# Altium footprint library SeniorDesign.PcbLib: 16 footprints
Each footprint in its own frame and in the unit in brackets; x right, y up, seen from the top. Pads: shape width x height; smd on the part's side, far side on the other; paste and mask are expansions set on the pad; w line width, h text height; cw(c..) or ccw(c..) is an arc to the next point about the centre after c.
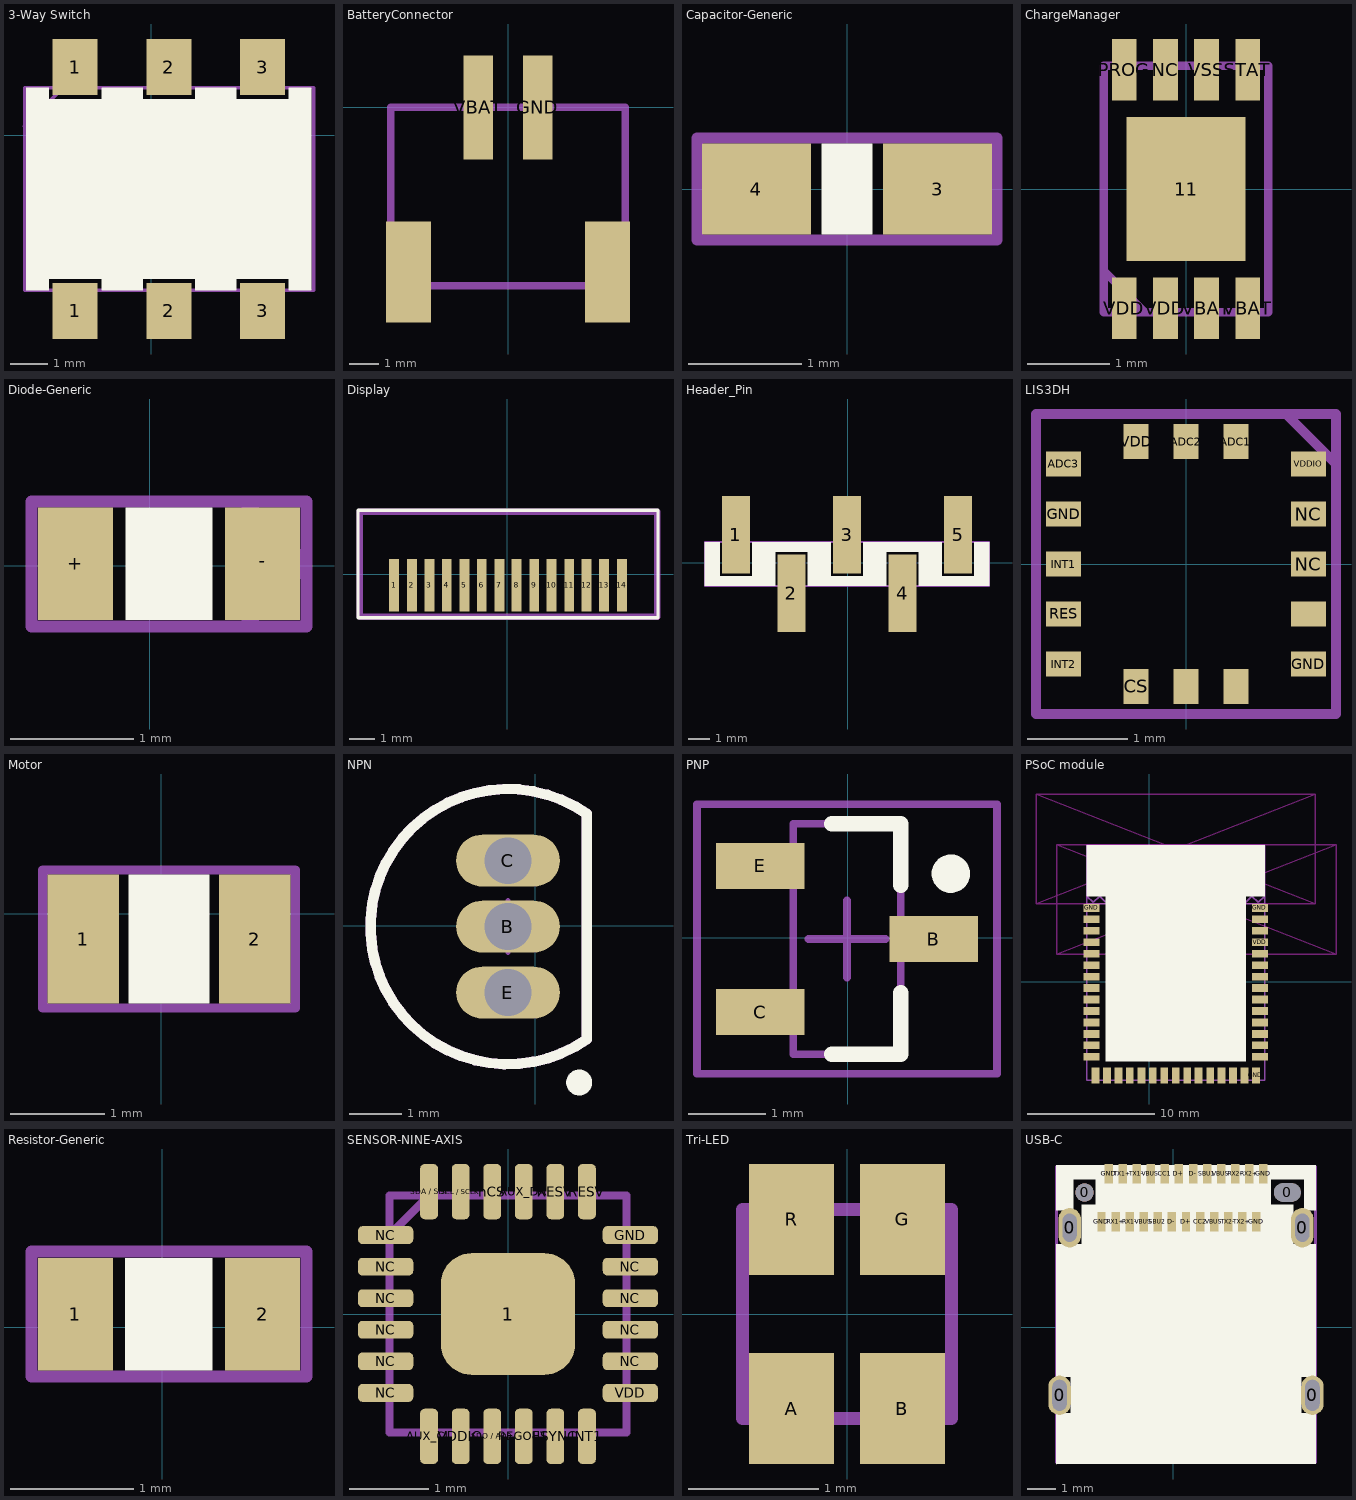
[diagram p0: the footprints below, top view; thin cyan lines are the x and y axes]

## 3-Way Switch [mm]
pads (6):
  rect 1.2x1.5 smd: 1(-2.022,-4.679) 1(-2.022,1.821) 2(0.478,-4.679) 2(0.478,1.821) 3(2.978,-4.679) 3(2.978,1.821)
Top Overlay:
  region: -3.322,1.271 -2.722,1.271 -2.722,0.971 -1.322,0.971 -1.322,1.271 -0.222,1.271 -0.222,0.971 1.178,0.971 1.178,1.271 2.278,1.271 2.278,0.971 3.678,0.971 3.678,1.271 4.278,1.271 4.278,-4.129 3.678,-4.129 3.678,-3.829 2.278,-3.829 2.278,-4.129 1.178,-4.129 1.178,-3.829 -0.222,-3.829 -0.222,-4.129 -1.322,-4.129 -1.322,-3.829 -2.722,-3.829 -2.722,-4.129 -3.322,-4.129
Top Assembly:
  lines w0.1: -3.372,0.246 -2.372,1.246 ; -3.372,-4.129 4.328,-4.129 4.328,1.271 -3.372,1.271 -3.372,-4.129
  text ".Designator" at -0.122,-1.629 h0.4
3D body "POWER-SLIDE-SWITCH.step": height 3.3, standoff 0, extent -3.397,-5.229 4.303,2.271

## BatteryConnector [mm]
pads (4):
  rect 1x3.5 smd: GND(1,0) VBAT(-1,0)
  rect 1.5x3.4 smd: ""(-3.35,-5.55) ""(3.35,-5.55)
Top Assembly:
  lines w0.254: -3.95,-6 3.95,-6 3.95,0 -3.95,0 -3.95,-6
  text ".Designator" at -3.9,-3.267 h0.4
3D body: height 5.5, standoff 0, extent -3.95,-6 3.95,0

## Capacitor-Generic [mm]
pads (2):
  rect 0.965x0.8 smd: 3(0.8,0) 4(-0.8,0)
Top Overlay:
  region: -0.225,0.4 0.225,0.4 0.225,-0.4 -0.225,-0.4
Top Assembly:
  lines w0.1: -1.325,-0.45 -1.325,0.45 1.325,0.45 1.325,-0.45 -1.325,-0.45
  text ".Designator" at -1.275,-0.267 h0.4
3D body: height 0.4, standoff 0, extent -1,-0.4 1,0.4

## ChargeManager [mm]
pads (9):
  rect 1.45x1.75 smd: 11(0,0)
  rect 0.3x0.75 smd: NC(-0.25,1.45) PROG(-0.75,1.45) STAT(0.75,1.45) VBAT(0.25,-1.45) VBAT(0.75,-1.45) VDD(-0.75,-1.45) VDD(-0.25,-1.45) VSS(0.25,1.45)
3D Bodies:
  text ".Designator" at -0.9,-0.267 h0.4
Top Assembly:
  lines w0.1: -1,-1 -0.5,-1.5 ; -1,-1.5 -1,1.5 1,1.5 1,-1.5 -1,-1.5
3D body: height 0.9, standoff 0.02, extent -1,-1.5 1,1.5

## Diode-Generic [mil]
pads (2):
  rect 24x36 smd: +(-23.87,0.57) -(36.13,0.57)
Top Overlay:
  rectangle: -7.87,-17.43 20.13,18.57
Top Assembly:
  lines w3.94: 30.13,-19.43 50.13,0.57 30.13,20.57 ; -37.87,-19.43 50.13,-19.43 50.13,20.57 -37.87,20.57 -37.87,-19.43
  text ".Designator" at -17.5,-7.31 h15.75
3D body "PASSIVE-DIODE-0603.step": height 20.62, standoff -3, extent -25.37,-15.18 37.63,16.32

## Display [mm]
pads (14):
  rect 0.4x2.1 smd: 1(-4.519,-0.443) 2(-3.819,-0.443) 3(-3.119,-0.443) 4(-2.419,-0.443) 5(-1.719,-0.443) 6(-1.019,-0.443) 7(-0.319,-0.443) 8(0.381,-0.443) 9(1.081,-0.443) 10(1.781,-0.443) 11(2.481,-0.443) 12(3.181,-0.443) 13(3.881,-0.443) 14(4.581,-0.443)
Top Overlay:
  lines w0.127: -5.969,-1.743 -5.969,2.557 6.031,2.557 6.031,-1.743 -5.969,-1.743
3D Bodies:
  lines w0.254: -5.9,-1.7 6,-1.7 6,2.5 -5.9,2.5 -5.9,-1.7
  text ".Designator" at -5.446,-0.538 h1.52

## Header_Pin [mm]
pads (5):
  rect 1.27x3.56 smd: 1(-5.113,1.274) 2(-2.573,-1.396) 3(-0.033,1.274) 4(2.507,-1.396) 5(5.047,1.274)
Top Overlay:
  region: -6.533,0.939 -5.858,0.939 -5.858,-0.611 -4.358,-0.611 -4.358,0.939 -0.783,0.939 -0.783,-0.611 0.717,-0.611 0.717,0.939 4.292,0.939 4.292,-0.611 5.792,-0.611 5.792,0.939 6.467,0.939 6.467,-1.061 3.242,-1.061 3.242,0.489 1.767,0.489 1.767,-1.061 -1.833,-1.061 -1.833,0.489 -3.308,0.489 -3.308,-1.061 -6.533,-1.061
Top Assembly:
  lines w0.1: -6.533,0.439 -6.033,0.939 ; -6.533,-1.061 6.467,-1.061 6.467,0.939 -6.533,0.939 -6.533,-1.061
  text ".Designator" at -0.633,-0.261 h0.4
3D body "CONNECTOR-HEADER-PINS.step": height 9.78, standoff 0.04, extent -6.103,-2.621 6.187,2.259

## LIS3DH [mm]
pads (16):
  rect 0.25x0.35 smd: ADC1(0.5,1.225) ADC2(0,1.225) CS(-0.5,-1.225) SDA/SDI/SDO(0.5,-1.225) "SDO / SA0"(0,-1.225) VDD(-0.5,1.225)
  rect 0.35x0.25 smd: ADC3(-1.225,1) GND(-1.225,0.5) GND(1.225,-1) INT1(-1.225,0) INT2(-1.225,-1) NC(1.225,0) NC(1.225,0.5) RES(-1.225,-0.5) "SCL / SPC"(1.225,-0.5) VDDIO(1.225,1)
Top Assembly:
  lines w0.1: 1,1.5 1.5,1 ; -1.5,-1.5 -1.5,1.5 1.5,1.5 1.5,-1.5 -1.5,-1.5
  text ".Designator" at -1.4,-0.267 h0.4
3D body: height 1, standoff 0, extent -1.5,-1.5 1.5,1.5

## Motor [mil]
pads (2):
  rect 30x54 smd: 1(-32.8,-10.5) 2(39.2,-10.5)
Top Overlay:
  rectangle: -13.8,-37.5 20.2,16.5
Top Assembly:
  lines w3.94: -49.8,-39.5 -49.8,18.5 56.2,18.5 56.2,-39.5 -49.8,-39.5
  text ".Designator" at -20.43,-18.38 h15.75

## NPN [mm]
pads (3):
  oval 2x1 hole 0.9: B(-0.528,-0.021) C(-0.528,1.249) E(-0.528,-1.291)
Top Overlay:
  circle w0.25: c0.843,-3.024 r0.125
  lines w0.2: 0.992,-2.192 cw(c-0.528,-0.021) 0.992,2.15 0.992,-2.192
3D Bodies:
  lines w0.2: 0.992,-2.192 cw(c-0.528,-0.021) 0.992,2.15 0.992,-2.192
Mechanical 15:
  lines w0.1: -1.028,-0.021 -0.028,-0.021 ; -0.528,-0.521 -0.528,0.479
3D body: height 5.33, standoff 0, extent -3.179,-2.682 0.992,2.64

## PNP [mm]
pads (3):
  rect 1.15x0.6 smd: B(1.112,-0.016) C(-1.138,-0.966) E(-1.138,0.934)
Top Overlay:
  circle w0.25: c1.337,0.834 r0.125
  lines w0.2: -0.213,-1.516 0.687,-1.516 0.687,-0.716 ; -0.213,1.484 0.687,1.484 0.687,0.684
3D Bodies:
  lines w0.1: -0.713,-1.516 0.687,-1.516 0.687,1.484 -0.713,1.484 -0.713,-1.516
Mechanical 15:
  lines w0.1: -0.513,-0.016 0.487,-0.016 ; -0.013,-0.516 -0.013,0.484 ; -1.963,-1.766 1.937,-1.766 1.937,1.734 -1.963,1.734 -1.963,-1.766
3D body: height 1.1, standoff 0, extent -0.713,-1.516 0.687,1.484

## PSoC module [mm]
pads (43):
  rect 1.27x0.61 smd: GND(-4.52,5.82) GND(8.72,5.82) P0.0(8.72,2.21) P0.1(8.72,1.31) P0.4(-4.52,4.02) P0.5(8.72,4.92) P5.0(-4.52,2.21) P5.1(-4.52,3.12) P5.2(-4.52,1.31) P5.3(-4.52,0.41) P5.5(-4.52,-0.49) P5.6(-4.52,-4.1) P6.3(-4.52,-5.9) P7.7(-4.52,-5) P9.3(8.72,-1.39) P9.4(8.72,-5.9) P10.0(8.72,-5) P10.1(8.72,-4.1) P10.2(-4.52,-3.2) P10.3(8.72,0.41) P10.4(8.72,-0.49) P10.5(8.72,-3.2) P10.6(8.72,-2.29) P12.6(-4.52,-2.29) P12.7(-4.52,-1.39) VBACKUP(8.72,4.02) VDD(8.72,3.12) XRES(-4.52,4.92)
  rect 0.61x1.27 smd: GND(8.41,-7.37) P5.4(-0.6,-7.37) P6.2(-3.31,-7.37) P6.4(0.3,-7.37) P6.5(-4.21,-7.37) P6.6(-2.41,-7.37) P6.7(-1.51,-7.37) P7.1(1.2,-7.37) P7.2(2.1,-7.37) P9.0(6.61,-7.37) P9.1(5.71,-7.37) P9.2(3,-7.37) P9.5(4.81,-7.37) P9.6(3.9,-7.37) VREF(7.51,-7.37)
Top Overlay:
  region: -3.4,-6.25 7.6,-6.25 7.6,6.75 9.1,6.75 9.1,10.75 -4.9,10.75 -4.9,6.75 -3.4,6.75
Keep-Out Layer:
  lines w0.1: -8.9,6.13 13.1,6.13 ; -8.9,6.13 -8.9,14.75 ; -8.9,6.13 13.1,14.75 ; -8.9,14.75 13.1,14.75 ; -8.9,14.75 13.1,6.13 ; -7.283,2.186 14.717,2.186 ; -7.283,2.186 -7.283,10.806 ; -7.283,2.186 14.717,10.806 ; -7.283,10.806 14.717,10.806 ; -7.283,10.806 14.717,2.186 ; 13.1,6.13 13.1,14.75 ; 14.717,2.186 14.717,10.806
Top Assembly:
  lines w0.1: -4.9,6.13 9.1,6.13 ; -4.9,10.75 -4.9,-7.75 9.1,-7.75 9.1,10.75 ; -4.9,10.75 9.1,10.75 ; -4.9,10.75 -1.9,7.75 ; -3.9,6.75 -4.4,6.25 -4.9,6.75 -1.9,9.75 ; -3.9,6.75 -3.4,6.25 -2.9,6.75 ; -3.9,6.75 -1.9,8.75 ; -3.9,6.75 -4.9,7.75 -1.9,10.75 2.1,6.75 ; -2.9,6.75 -2.4,6.25 -1.9,6.75 ; -2.9,6.75 -4.9,8.75 -2.9,10.75 -1.9,9.75 ; -2.9,6.75 -1.9,7.75 ; -1.9,6.75 -1.4,6.25 -0.9,6.75 ; -1.9,6.75 2.1,10.75 6.1,6.75 ; -1.9,6.75 -4.9,9.75 -3.9,10.75 -1.9,8.75 ; -1.9,7.75 -0.9,6.75 ; -1.9,7.75 1.1,10.75 5.1,6.75 ; -1.9,8.75 0.1,6.75 ; -1.9,8.75 0.1,10.75 4.1,6.75 ; -1.9,9.75 1.1,6.75 ; -1.9,9.75 -0.9,10.75 3.1,6.75 ; -0.9,6.75 -0.4,6.25 0.1,6.75 ; -0.9,6.75 3.1,10.75 7.1,6.75 ; 0.1,6.75 0.6,6.25 1.1,6.75 ; 0.1,6.75 4.1,10.75 8.1,6.75 ; 1.1,6.75 1.6,6.25 2.1,6.75 ; 1.1,6.75 5.1,10.75 9.1,6.75 8.6,6.25 8.1,6.75 ; 2.1,6.75 2.6,6.25 3.1,6.75 ; 2.1,6.75 6.1,10.75 9.1,7.75 8.1,6.75 ; 3.1,6.75 3.6,6.25 4.1,6.75 ; 3.1,6.75 7.1,10.75 9.1,8.75 7.1,6.75 ; 4.1,6.75 4.6,6.25 5.1,6.75 ; 4.1,6.75 8.1,10.75 9.1,9.75 6.1,6.75 ; 5.1,6.75 5.6,6.25 6.1,6.75 ; 5.1,6.75 9.1,10.75 ; 6.1,6.75 6.6,6.25 7.1,6.75 ; 7.1,6.75 7.6,6.25 8.1,6.75
  text ".Designator" at 0.6,1.5 h0.4
3D body "MICRO-PSOC6-MODULE.step": height 2.01, standoff -0.09, extent -5.205,-8.051 9.405,10.754

## Resistor-Generic [mil]
pads (2):
  rect 24x36 smd: 1(-27.81,4.25) 2(32.19,4.25)
Top Overlay:
  rectangle: -11.81,-13.75 16.19,22.25
Top Assembly:
  lines w3.94: -41.81,-15.75 46.19,-15.75 46.19,24.25 -41.81,24.25 -41.81,-15.75
  text ".Designator" at -21.43,-3.62 h15.75
3D body "PASSIVE-RESISTOR-0603.step": height 15.15, standoff -3.15, extent -29.31,-11.49 33.69,20

## SENSOR-NINE-AXIS [mm]
height 1
pads (25):
  rrect50% 1.7x1.54 smd: 1(0,0)
  rrect50% 0.225x0.7 smd: AUX_CL(-1,-1.55) AUX_DA(0.2,1.55) FSYNC(0.6,-1.55) INT1(1,-1.55) nCS(-0.2,1.55) REGOUT(0.2,-1.55) RESV(0.6,1.55) RESV(1,1.55) "SCL / SCLK"(-0.6,1.55) "SDA / SDI"(-1,1.55) "SDO / AD0"(-0.2,-1.55) VDDIO(-0.6,-1.55)
  rrect50% 0.7x0.225 smd: GND(1.55,1) NC(-1.55,-1) NC(-1.55,-0.6) NC(-1.55,-0.2) NC(-1.55,0.2) NC(-1.55,0.6) NC(-1.55,1) NC(1.55,-0.6) NC(1.55,-0.2) NC(1.55,0.2) NC(1.55,0.6) VDD(1.55,-1)
Top Assembly:
  lines w0.1: -1.5,1 -1,1.5 ; -1.5,-1.5 -1.5,1.5 1.5,1.5 1.5,-1.5 -1.5,-1.5
  text ".Designator" at -0.9,-0.267 h0.4
3D body: height 1, standoff 0, extent -1.5,-1.5 1.5,1.5

## Tri-LED [mm]
pads (4):
  rect 0.65x0.85 smd: A(-0.425,-0.725) B(0.425,-0.725) G(0.425,0.725) R(-0.425,0.725)
Top Assembly:
  lines w0.1: -0.8,-0.8 -0.8,0.8 0.8,0.8 0.8,-0.8 -0.8,-0.8
  text ".Designator" at -0.4,-0.267 h0.4
3D body "LTST-C19HE1WT--3DModel-STEP-56544.STEP": height 0.35, standoff 0, extent -0.8,-0.8 0.8,0.8

## USB-C [mm]
pads (30):
  oval 0.8x1.4 hole 1.1 slot 0.5 at 0 deg: 0(-4.042,-2.412) 0(4.938,-2.412)
  oval 0.8x1.4 hole 1 slot 0.5 at 0 deg: 0(-3.682,3.538) 0(4.578,3.538)
  round 0.65 hole 0.65 unplated: 0(-3.152,4.788)
  oval 0.95x0.65 hole 0.65 slot 0.95 at 0 deg unplated: 0(4.048,4.788)
  rect 0.3x0.7 smd: CC1(-0.302,5.448) CC2(0.948,3.748) D+(0.198,5.448) D+(0.448,3.748) D-(-0.052,3.748) D-(0.698,5.448) GND(-2.552,3.748) GND(-2.302,5.448) GND(2.948,3.748) GND(3.198,5.448) RX1+(-2.052,3.748) RX1-(-1.552,3.748) RX2+(2.698,5.448) RX2-(2.198,5.448) SBU1(1.198,5.448) SBU2(-0.552,3.748) TX1+(-1.802,5.448) TX1-(-1.302,5.448) TX2+(2.448,3.748) TX2-(1.948,3.748) VBUS(-1.052,3.748) VBUS(-0.802,5.448) VBUS(1.448,3.748) VBUS(1.698,5.448)
Top Overlay:
  region: -4.152,-3.052 -3.652,-3.052 -3.652,-1.752 -4.152,-1.752 -4.152,2.948 -3.252,2.948 -3.252,4.348 -2.752,4.348 -2.752,5.248 -3.552,5.248 -3.552,4.148 -4.152,4.148 -4.152,5.748 5.048,5.748 5.048,4.148 4.648,4.148 4.648,5.248 3.448,5.248 3.448,4.348 4.248,4.348 4.248,2.948 5.048,2.948 5.048,-1.752 4.548,-1.752 4.548,-3.052 5.048,-3.052 5.048,-4.852 -4.152,-4.852
Top Assembly:
  lines w0.1: -4.152,-4.802 -4.152,5.698 5.048,5.698 5.048,-4.802 -4.152,-4.802
  text "USB C" at -0.452,3.548 h0.4
3D body "12401598E4#2A.stp": height 3.17, standoff -2.21, extent -4.152,-4.846 5.048,5.704